# EAGLE library part BKP-TO-SOL (library Solenoid Connector (backplane side))
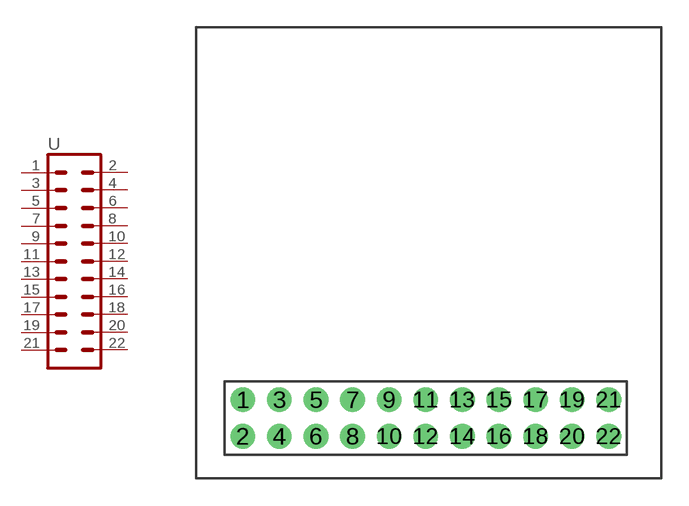
[diagram p0: symbol with the pads of BKP-TO-SOL_TMM-111-01-T-D; footprint BKP-TO-SOL_TMM-111-01-T-D]

Designator prefix -

## BKP-TO-SOL  [BKP-TO-SOL_TMM-111-01-T-D]
1  1  pas
2  2  pas
3  3  pas
4  4  pas
5  5  pas
6  6  pas
7  7  pas
8  8  pas
9  9  pas
10  10  pas
11  11  pas
12  12  pas
13  13  pas
14  14  pas
15  15  pas
16  16  pas
17  17  pas
18  18  pas
19  19  pas
20  20  pas
21  21  pas
22  22  pas

## Footprint BKP-TO-SOL_TMM-111-01-T-D (pad centres in mm)
drill 0.75 pad 1.35: 1 0,2; 2 0,0; 3 2,2; 4 2,0; 5 4,2; 6 4,0; 7 6,2; 8 6,0; 9 8,2; 10 8,0; 11 10,2; 12 10,0; 13 12,2; 14 12,0; 15 14,2; 16 14,0; 17 16,2; 18 16,0; 19 18,2; 20 18,0; 21 20,2; 22 20,0